# Altium footprint library CommonPcb.PcbLib: 194 footprints (part 6 of 13)
Each footprint in its own frame and in the unit in brackets; x right, y up, seen from the top. Pads: shape width x height; smd on the part's side, far side on the other; paste and mask are expansions set on the pad; w line width, h text height; cw(c..) or ccw(c..) is an arc to the next point about the centre after c.
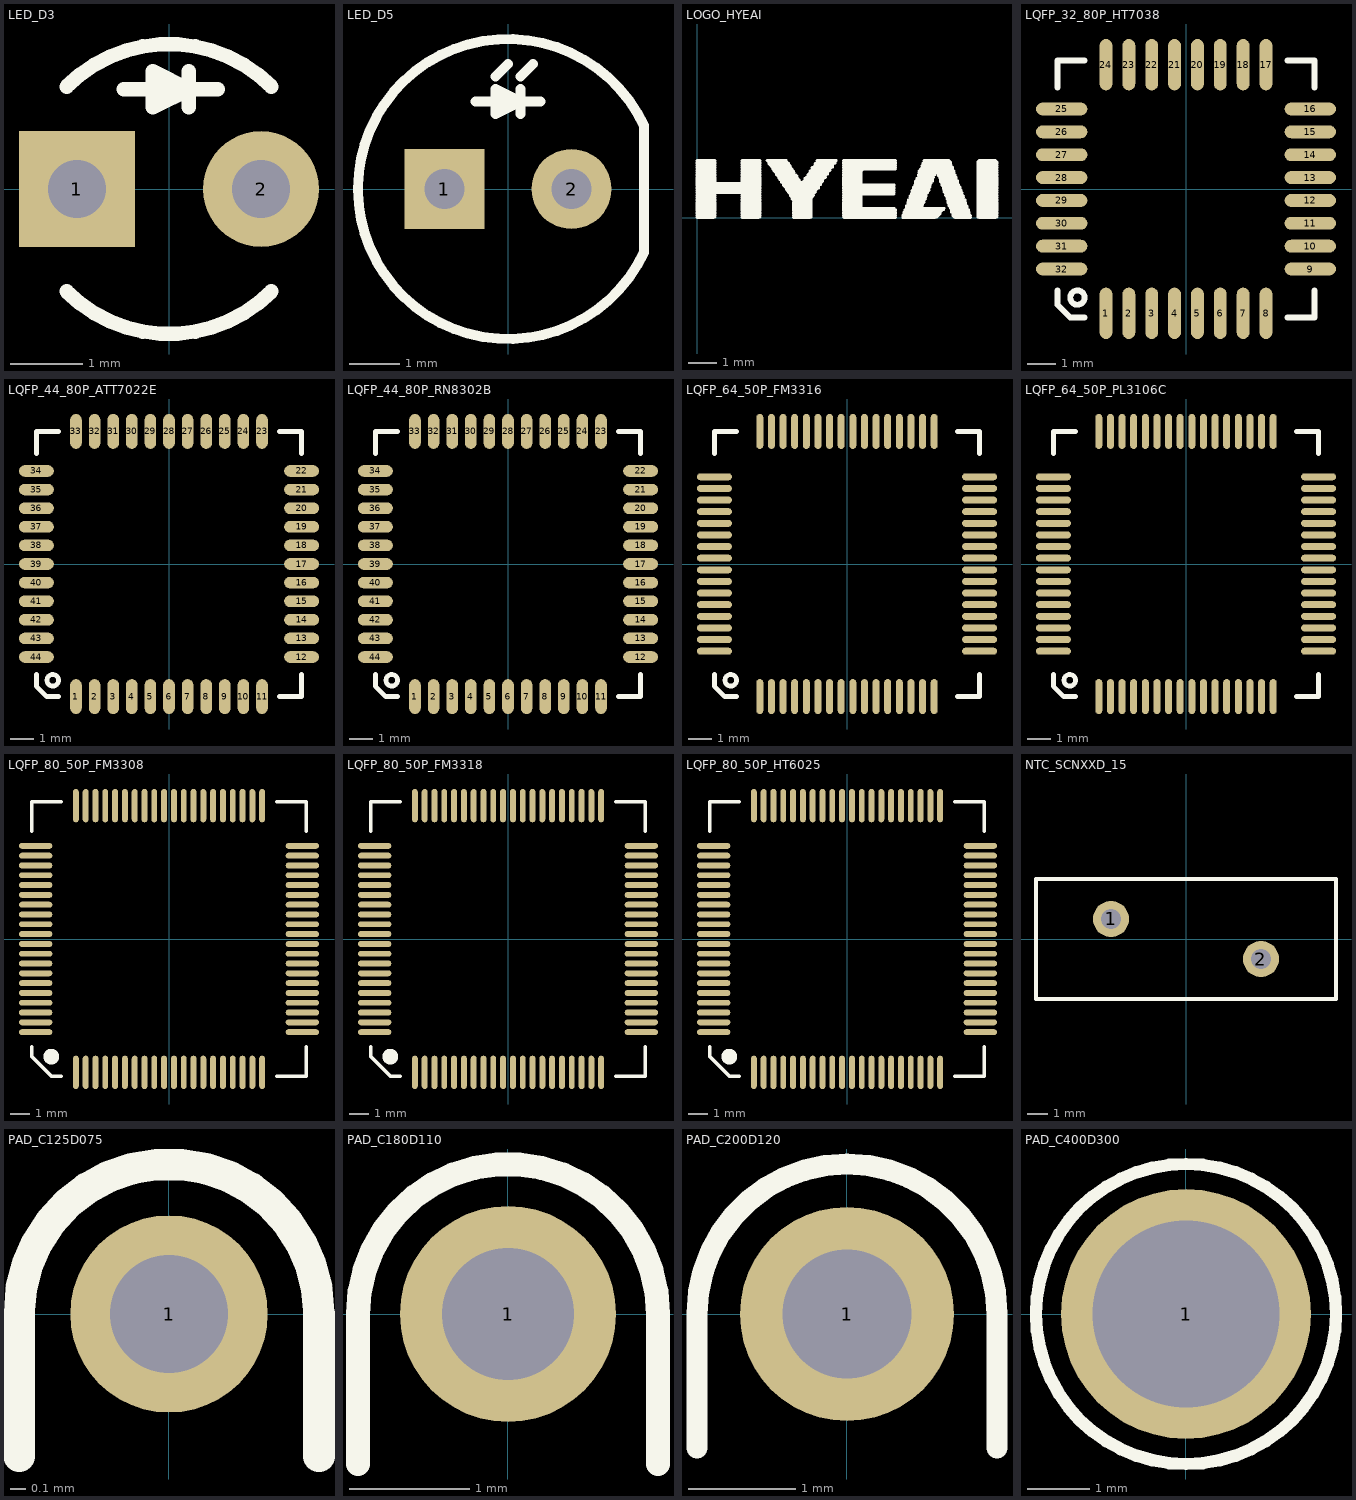
[diagram p5: the footprints below, top view; thin cyan lines are the x and y axes]

## LED_D3 [mm] "3.0mm Round Type"
pads (2):
  rect 1.6x1.6 hole 0.8 mask+0.1: 1(-1.27,0)
  round 1.6 hole 0.8 mask+0.1: 2(1.27,0)
Top Overlay:
  lines w0.2: -1.414,-1.414 ccw(c0,0) 1.414,-1.414 ; -1.414,1.414 cw(c0,0) 1.414,1.414 ; -0.625,1.375 -0.225,1.375 0.275,1.375 ; 0.275,1.125 0.275,1.625 ; 0.675,1.375 0.275,1.375 ; 0.275,1.375 -0.225,1.625 -0.225,1.125 0.275,1.375
3D body: height 0, standoff 0, extent -1.999,-1.999 1.999,1.999

## LED_D5 [mm] "5.0mm Round Type"
pads (2):
  rect 1.6x1.6 hole 0.8 mask+0.1: 1(-1.27,0)
  round 1.6 hole 0.8 mask+0.1: 2(1.27,0)
Top Overlay:
  lines w0.2: -0.65,1.75 -0.25,1.75 0.25,1.75 ; -0.25,2.25 0,2.5 ; 0.25,1.5 0.25,2 ; 0.25,2.25 0.5,2.5 ; 0.65,1.75 0.25,1.75 ; 0.25,1.75 -0.25,2 -0.25,1.5 0.25,1.75 ; 2.719,-1.268 cw(c0,0) 2.719,1.268 2.719,-1.268
3D body: height 0, standoff 0, extent -3.001,-3.009 2.719,3.009

## LOGO_HYEAI [mm] "LOGO"
Top Overlay:
  drawing of 343 lines, arcs and shapes, not listed

## LQFP_32_80P_HT7038 [mm] "LQFP_32_80P_9_9"
height 1.6
pads (32):
  oval 0.45x1.8 smd mask+0.05: 1(-2.8,-4.35) 2(-2,-4.35) 3(-1.2,-4.35) 4(-0.4,-4.35) 5(0.4,-4.35) 6(1.2,-4.35) 7(2,-4.35) 8(2.8,-4.35) 17(2.8,4.35) 18(2,4.35) 19(1.2,4.35) 20(0.4,4.35) 21(-0.4,4.35) 22(-1.2,4.35) 23(-2,4.35) 24(-2.8,4.35)
  oval 1.8x0.45 smd mask+0.05: 9(4.35,-2.8) 10(4.35,-2) 11(4.35,-1.2) 12(4.35,-0.4) 13(4.35,0.4) 14(4.35,1.2) 15(4.35,2) 16(4.35,2.8) 25(-4.35,2.8) 26(-4.35,2) 27(-4.35,1.2) 28(-4.35,0.4) 29(-4.35,-0.4) 30(-4.35,-1.2) 31(-4.35,-2) 32(-4.35,-2.8)
Top Overlay:
  circle w0.2: c-3.8,-3.8 r0.25
  lines w0.2: -4.5,-3.55 -4.5,-4.05 -4.05,-4.5 -3.55,-4.5 ; -4.5,3.55 -4.5,4.5 -3.55,4.5 ; 3.55,-4.5 4.5,-4.5 4.5,-3.55 ; 3.55,4.5 4.5,4.5 4.5,3.55
3D body: height 0, standoff 0, extent -5.5,-5.6 5.5,5.5

## LQFP_44_80P_ATT7022E [mm] "LQFP_44_80P_12_12"
pads (44):
  oval 0.5x1.5 smd mask+0.05: 1(-4,-5.7) 2(-3.2,-5.7) 3(-2.4,-5.7) 4(-1.6,-5.7) 5(-0.8,-5.7) 6(0,-5.7) 7(0.8,-5.7) 8(1.6,-5.7) 9(2.4,-5.7) 10(3.2,-5.7) 11(4,-5.7) 23(4,5.7) 24(3.2,5.7) 25(2.4,5.7) 26(1.6,5.7) 27(0.8,5.7) 28(0,5.7) 29(-0.8,5.7) 30(-1.6,5.7) 31(-2.4,5.7) 32(-3.2,5.7) 33(-4,5.7)
  oval 1.5x0.5 smd mask+0.05: 12(5.7,-4) 13(5.7,-3.2) 14(5.7,-2.4) 15(5.7,-1.6) 16(5.7,-0.8) 17(5.7,0) 18(5.7,0.8) 19(5.7,1.6) 20(5.7,2.4) 21(5.7,3.2) 22(5.7,4) 34(-5.7,4) 35(-5.7,3.2) 36(-5.7,2.4) 37(-5.7,1.6) 38(-5.7,0.8) 39(-5.7,0) 40(-5.7,-0.8) 41(-5.7,-1.6) 42(-5.7,-2.4) 43(-5.7,-3.2) 44(-5.7,-4)
Top Overlay:
  circle w0.2: c-5,-5 r0.25
  lines w0.2: -5.7,-4.75 -5.7,-5.25 -5.25,-5.7 -4.75,-5.7 ; -5.7,4.75 -5.7,5.7 -4.75,5.7 ; 4.75,-5.7 5.7,-5.7 5.7,-4.75 ; 4.75,5.7 5.7,5.7 5.7,4.75
3D body: height 0, standoff 0, extent -6.725,-6.7 6.7,6.7

## LQFP_44_80P_RN8302B [mm] "LQFP_44_80P_12_12"
pads (44):
  oval 0.5x1.5 smd mask+0.05: 1(-4,-5.7) 2(-3.2,-5.7) 3(-2.4,-5.7) 4(-1.6,-5.7) 5(-0.8,-5.7) 6(0,-5.7) 7(0.8,-5.7) 8(1.6,-5.7) 9(2.4,-5.7) 10(3.2,-5.7) 11(4,-5.7) 23(4,5.7) 24(3.2,5.7) 25(2.4,5.7) 26(1.6,5.7) 27(0.8,5.7) 28(0,5.7) 29(-0.8,5.7) 30(-1.6,5.7) 31(-2.4,5.7) 32(-3.2,5.7) 33(-4,5.7)
  oval 1.5x0.5 smd mask+0.05: 12(5.7,-4) 13(5.7,-3.2) 14(5.7,-2.4) 15(5.7,-1.6) 16(5.7,-0.8) 17(5.7,0) 18(5.7,0.8) 19(5.7,1.6) 20(5.7,2.4) 21(5.7,3.2) 22(5.7,4) 34(-5.7,4) 35(-5.7,3.2) 36(-5.7,2.4) 37(-5.7,1.6) 38(-5.7,0.8) 39(-5.7,0) 40(-5.7,-0.8) 41(-5.7,-1.6) 42(-5.7,-2.4) 43(-5.7,-3.2) 44(-5.7,-4)
Top Overlay:
  circle w0.2: c-5,-5 r0.25
  lines w0.2: -5.7,-4.75 -5.7,-5.25 -5.25,-5.7 -4.75,-5.7 ; -5.7,4.75 -5.7,5.7 -4.75,5.7 ; 4.75,-5.7 5.7,-5.7 5.7,-4.75 ; 4.75,5.7 5.7,5.7 5.7,4.75
3D body: height 0, standoff 0, extent -6.725,-6.7 6.7,6.7

## LQFP_64_50P_FM3316 [mm] "LQFP_64_50P"
pads (64):
  oval 0.3x1.5 smd mask+0.05: 1(-3.75,-5.7) 2(-3.25,-5.7) 3(-2.75,-5.7) 4(-2.25,-5.7) 5(-1.75,-5.7) 6(-1.25,-5.7) 7(-0.75,-5.7) 8(-0.25,-5.7) 9(0.25,-5.7) 10(0.75,-5.7) 11(1.25,-5.7) 12(1.75,-5.7) 13(2.25,-5.7) 14(2.75,-5.7) 15(3.25,-5.7) 16(3.75,-5.7) 33(3.75,5.7) 34(3.25,5.7) 35(2.75,5.7) 36(2.25,5.7) 37(1.75,5.7) 38(1.25,5.7) 39(0.75,5.7) 40(0.25,5.7) 41(-0.25,5.7) 42(-0.75,5.7) 43(-1.25,5.7) 44(-1.75,5.7) 45(-2.25,5.7) 46(-2.75,5.7) 47(-3.25,5.7) 48(-3.75,5.7)
  oval 1.5x0.3 smd mask+0.05: 17(5.7,-3.75) 18(5.7,-3.25) 19(5.7,-2.75) 20(5.7,-2.25) 21(5.7,-1.75) 22(5.7,-1.25) 23(5.7,-0.75) 24(5.7,-0.25) 25(5.7,0.25) 26(5.7,0.75) 27(5.7,1.25) 28(5.7,1.75) 29(5.7,2.25) 30(5.7,2.75) 31(5.7,3.25) 32(5.7,3.75) 49(-5.7,3.75) 50(-5.7,3.25) 51(-5.7,2.75) 52(-5.7,2.25) 53(-5.7,1.75) 54(-5.7,1.25) 55(-5.7,0.75) 56(-5.7,0.25) 57(-5.7,-0.25) 58(-5.7,-0.75) 59(-5.7,-1.25) 60(-5.7,-1.75) 61(-5.7,-2.25) 62(-5.7,-2.75) 63(-5.7,-3.25) 64(-5.7,-3.75)
Top Overlay:
  circle w0.2: c-5,-5 r0.25
  lines w0.2: -5.7,-4.75 -5.7,-5.25 -5.25,-5.7 -4.75,-5.7 ; -5.7,4.75 -5.7,5.7 -4.75,5.7 ; 4.75,-5.7 5.7,-5.7 5.7,-4.75 ; 4.75,5.7 5.7,5.7 5.7,4.75
3D body: height 0, standoff 0, extent -6.725,-6.7 6.7,6.7

## LQFP_64_50P_PL3106C [mm] "LQFP_64_50P"
pads (64):
  oval 0.3x1.5 smd mask+0.05: 1(-3.75,-5.7) 2(-3.25,-5.7) 3(-2.75,-5.7) 4(-2.25,-5.7) 5(-1.75,-5.7) 6(-1.25,-5.7) 7(-0.75,-5.7) 8(-0.25,-5.7) 9(0.25,-5.7) 10(0.75,-5.7) 11(1.25,-5.7) 12(1.75,-5.7) 13(2.25,-5.7) 14(2.75,-5.7) 15(3.25,-5.7) 16(3.75,-5.7) 33(3.75,5.7) 34(3.25,5.7) 35(2.75,5.7) 36(2.25,5.7) 37(1.75,5.7) 38(1.25,5.7) 39(0.75,5.7) 40(0.25,5.7) 41(-0.25,5.7) 42(-0.75,5.7) 43(-1.25,5.7) 44(-1.75,5.7) 45(-2.25,5.7) 46(-2.75,5.7) 47(-3.25,5.7) 48(-3.75,5.7)
  oval 1.5x0.3 smd mask+0.05: 17(5.7,-3.75) 18(5.7,-3.25) 19(5.7,-2.75) 20(5.7,-2.25) 21(5.7,-1.75) 22(5.7,-1.25) 23(5.7,-0.75) 24(5.7,-0.25) 25(5.7,0.25) 26(5.7,0.75) 27(5.7,1.25) 28(5.7,1.75) 29(5.7,2.25) 30(5.7,2.75) 31(5.7,3.25) 32(5.7,3.75) 49(-5.7,3.75) 50(-5.7,3.25) 51(-5.7,2.75) 52(-5.7,2.25) 53(-5.7,1.75) 54(-5.7,1.25) 55(-5.7,0.75) 56(-5.7,0.25) 57(-5.7,-0.25) 58(-5.7,-0.75) 59(-5.7,-1.25) 60(-5.7,-1.75) 61(-5.7,-2.25) 62(-5.7,-2.75) 63(-5.7,-3.25) 64(-5.7,-3.75)
Top Overlay:
  circle w0.2: c-5,-5 r0.25
  lines w0.2: -5.7,-4.75 -5.7,-5.25 -5.25,-5.7 -4.75,-5.7 ; -5.7,4.75 -5.7,5.7 -4.75,5.7 ; 4.75,-5.7 5.7,-5.7 5.7,-4.75 ; 4.75,5.7 5.7,5.7 5.7,4.75
3D body: height 0, standoff 0, extent -6.725,-6.7 6.7,6.7

## LQFP_80_50P_FM3308 [mm] "LQFP_80_50P_14_14"
pads (80):
  oval 0.3x1.7 smd mask+0.05: 1(-4.75,-6.8) 2(-4.25,-6.8) 3(-3.75,-6.8) 4(-3.25,-6.8) 5(-2.75,-6.8) 6(-2.25,-6.8) 7(-1.75,-6.8) 8(-1.25,-6.8) 9(-0.75,-6.8) 10(-0.25,-6.8) 11(0.25,-6.8) 12(0.75,-6.8) 13(1.25,-6.8) 14(1.75,-6.8) 15(2.25,-6.8) 16(2.75,-6.8) 17(3.25,-6.8) 18(3.75,-6.8) 19(4.25,-6.8) 20(4.75,-6.8) 41(4.75,6.8) 42(4.25,6.8) 43(3.75,6.8) 44(3.25,6.8) 45(2.75,6.8) 46(2.25,6.8) 47(1.75,6.8) 48(1.25,6.8) 49(0.75,6.8) 50(0.25,6.8) 51(-0.25,6.8) 52(-0.75,6.8) 53(-1.25,6.8) 54(-1.75,6.8) 55(-2.25,6.8) 56(-2.75,6.8) 57(-3.25,6.8) 58(-3.75,6.8) 59(-4.25,6.8) 60(-4.75,6.8)
  oval 1.7x0.3 smd mask+0.05: 21(6.8,-4.75) 22(6.8,-4.25) 23(6.8,-3.75) 24(6.8,-3.25) 25(6.8,-2.75) 26(6.8,-2.25) 27(6.8,-1.75) 28(6.8,-1.25) 29(6.8,-0.75) 30(6.8,-0.25) 31(6.8,0.25) 32(6.8,0.75) 33(6.8,1.25) 34(6.8,1.75) 35(6.8,2.25) 36(6.8,2.75) 37(6.8,3.25) 38(6.8,3.75) 39(6.8,4.25) 40(6.8,4.75) 61(-6.8,4.75) 62(-6.8,4.25) 63(-6.8,3.75) 64(-6.8,3.25) 65(-6.8,2.75) 66(-6.8,2.25) 67(-6.8,1.75) 68(-6.8,1.25) 69(-6.8,0.75) 70(-6.8,0.25) 71(-6.8,-0.25) 72(-6.8,-0.75) 73(-6.8,-1.25) 74(-6.8,-1.75) 75(-6.8,-2.25) 76(-6.8,-2.75) 77(-6.8,-3.25) 78(-6.8,-3.75) 79(-6.8,-4.25) 80(-6.8,-4.75)
Top Overlay:
  circle w0.4: c-6,-6 r0.2
  lines w0.2: -7,-5.5 -7,-6 -6,-7 -5.5,-7 ; -7,5.5 -7,7 -5.5,7 ; 5.5,-7 7,-7 7,-5.5 ; 5.5,7 7,7 7,5.5
3D body: height 0, standoff 0, extent -8.499,-8.499 8.499,8.499

## LQFP_80_50P_FM3318 [mm] "LQFP_80_50P_14_14"
pads (80):
  oval 0.3x1.7 smd mask+0.05: 1(-4.75,-6.8) 2(-4.25,-6.8) 3(-3.75,-6.8) 4(-3.25,-6.8) 5(-2.75,-6.8) 6(-2.25,-6.8) 7(-1.75,-6.8) 8(-1.25,-6.8) 9(-0.75,-6.8) 10(-0.25,-6.8) 11(0.25,-6.8) 12(0.75,-6.8) 13(1.25,-6.8) 14(1.75,-6.8) 15(2.25,-6.8) 16(2.75,-6.8) 17(3.25,-6.8) 18(3.75,-6.8) 19(4.25,-6.8) 20(4.75,-6.8) 41(4.75,6.8) 42(4.25,6.8) 43(3.75,6.8) 44(3.25,6.8) 45(2.75,6.8) 46(2.25,6.8) 47(1.75,6.8) 48(1.25,6.8) 49(0.75,6.8) 50(0.25,6.8) 51(-0.25,6.8) 52(-0.75,6.8) 53(-1.25,6.8) 54(-1.75,6.8) 55(-2.25,6.8) 56(-2.75,6.8) 57(-3.25,6.8) 58(-3.75,6.8) 59(-4.25,6.8) 60(-4.75,6.8)
  oval 1.7x0.3 smd mask+0.05: 21(6.8,-4.75) 22(6.8,-4.25) 23(6.8,-3.75) 24(6.8,-3.25) 25(6.8,-2.75) 26(6.8,-2.25) 27(6.8,-1.75) 28(6.8,-1.25) 29(6.8,-0.75) 30(6.8,-0.25) 31(6.8,0.25) 32(6.8,0.75) 33(6.8,1.25) 34(6.8,1.75) 35(6.8,2.25) 36(6.8,2.75) 37(6.8,3.25) 38(6.8,3.75) 39(6.8,4.25) 40(6.8,4.75) 61(-6.8,4.75) 62(-6.8,4.25) 63(-6.8,3.75) 64(-6.8,3.25) 65(-6.8,2.75) 66(-6.8,2.25) 67(-6.8,1.75) 68(-6.8,1.25) 69(-6.8,0.75) 70(-6.8,0.25) 71(-6.8,-0.25) 72(-6.8,-0.75) 73(-6.8,-1.25) 74(-6.8,-1.75) 75(-6.8,-2.25) 76(-6.8,-2.75) 77(-6.8,-3.25) 78(-6.8,-3.75) 79(-6.8,-4.25) 80(-6.8,-4.75)
Top Overlay:
  circle w0.4: c-6,-6 r0.2
  lines w0.2: -7,-5.5 -7,-6 -6,-7 -5.5,-7 ; -7,5.5 -7,7 -5.5,7 ; 5.5,-7 7,-7 7,-5.5 ; 5.5,7 7,7 7,5.5
3D body: height 0, standoff 0, extent -8.499,-8.499 8.499,8.499

## LQFP_80_50P_HT6025 [mm] "LQFP_80_50P_14_14"
pads (80):
  oval 0.3x1.7 smd mask+0.05: 1(-4.75,-6.8) 2(-4.25,-6.8) 3(-3.75,-6.8) 4(-3.25,-6.8) 5(-2.75,-6.8) 6(-2.25,-6.8) 7(-1.75,-6.8) 8(-1.25,-6.8) 9(-0.75,-6.8) 10(-0.25,-6.8) 11(0.25,-6.8) 12(0.75,-6.8) 13(1.25,-6.8) 14(1.75,-6.8) 15(2.25,-6.8) 16(2.75,-6.8) 17(3.25,-6.8) 18(3.75,-6.8) 19(4.25,-6.8) 20(4.75,-6.8) 41(4.75,6.8) 42(4.25,6.8) 43(3.75,6.8) 44(3.25,6.8) 45(2.75,6.8) 46(2.25,6.8) 47(1.75,6.8) 48(1.25,6.8) 49(0.75,6.8) 50(0.25,6.8) 51(-0.25,6.8) 52(-0.75,6.8) 53(-1.25,6.8) 54(-1.75,6.8) 55(-2.25,6.8) 56(-2.75,6.8) 57(-3.25,6.8) 58(-3.75,6.8) 59(-4.25,6.8) 60(-4.75,6.8)
  oval 1.7x0.3 smd mask+0.05: 21(6.8,-4.75) 22(6.8,-4.25) 23(6.8,-3.75) 24(6.8,-3.25) 25(6.8,-2.75) 26(6.8,-2.25) 27(6.8,-1.75) 28(6.8,-1.25) 29(6.8,-0.75) 30(6.8,-0.25) 31(6.8,0.25) 32(6.8,0.75) 33(6.8,1.25) 34(6.8,1.75) 35(6.8,2.25) 36(6.8,2.75) 37(6.8,3.25) 38(6.8,3.75) 39(6.8,4.25) 40(6.8,4.75) 61(-6.8,4.75) 62(-6.8,4.25) 63(-6.8,3.75) 64(-6.8,3.25) 65(-6.8,2.75) 66(-6.8,2.25) 67(-6.8,1.75) 68(-6.8,1.25) 69(-6.8,0.75) 70(-6.8,0.25) 71(-6.8,-0.25) 72(-6.8,-0.75) 73(-6.8,-1.25) 74(-6.8,-1.75) 75(-6.8,-2.25) 76(-6.8,-2.75) 77(-6.8,-3.25) 78(-6.8,-3.75) 79(-6.8,-4.25) 80(-6.8,-4.75)
Top Overlay:
  circle w0.4: c-6,-6 r0.2
  lines w0.2: -7,-5.5 -7,-6 -6,-7 -5.5,-7 ; -7,5.5 -7,7 -5.5,7 ; 5.5,-7 7,-7 7,-5.5 ; 5.5,7 7,7 7,5.5
3D body: height 0, standoff 0, extent -8.499,-8.499 8.499,8.499

## NTC_SCNXXD_15 [mm] "NTC"
pads (2):
  round 1.8 hole 1 mask+0.1: 1(-3.75,1) 2(3.75,-1)
Top Overlay:
  lines w0.2: -7.5,-3 -7.5,3 7.5,3 7.5,-3 -7.5,-3
3D body: height 0, standoff 0, extent -7.5,-3 7.5,3

## PAD_C125D075 [mm] "c125d075"
pads (1):
  round 1.25 hole 0.75 mask+0.1: 1(0,0)
Top Overlay:
  lines w0.2: -0.95,-0.9 -0.95,0 cw(c0,0) 0.95,0 0.95,-0.9
3D body: height 0, standoff 0, extent -0.951,-0.901 0.951,0.951

## PAD_C180D110 [mm] "c180d110"
pads (1):
  round 1.8 hole 1.1 mask+0.1: 1(0,0)
Top Overlay:
  lines w0.2: -1.25,-1.25 -1.25,0 cw(c0,0) 1.25,0 1.25,-1.25
3D body: height 0, standoff 0, extent -1.251,-1.251 1.251,1.251

## PAD_C200D120 [mm] "c200d120"
pads (1):
  round 2 hole 1.2 mask+0.1: 1(0,0)
Top Overlay:
  lines w0.2: -1.4,-1.25 -1.4,0 cw(c0,0) 1.4,0 1.4,-1.25
3D body: height 0, standoff 0, extent -1.401,-1.251 1.401,1.401

## PAD_C400D300 [mm] "c400d300"
pads (1):
  round 4 hole 3 mask+0.1: 1(0,0)
Top Overlay:
  circle w0.2: c0,0 r2.4
3D body: height 0, standoff 0, extent -2.399,-2.399 2.399,2.399